# EAGLE library part LM239N (library open-bldc)
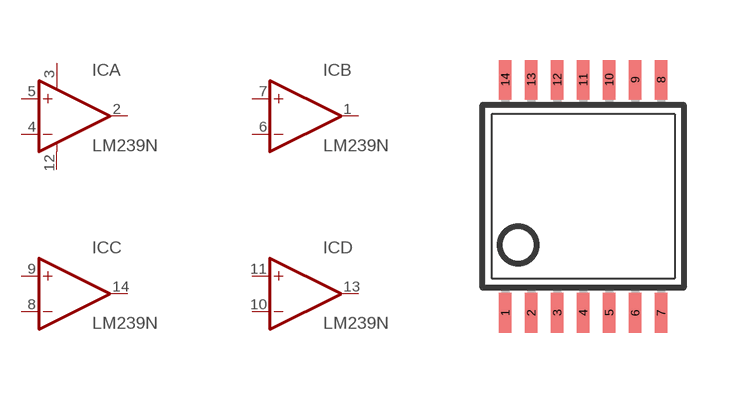
[diagram p22: symbol with the pads of TSSOP_14; footprint TSSOP_14]

Designator prefix IC; gates A=OP-AMP+- B=OP-AMP C=OP-AMP D=OP-AMP

## LM239N-TP  [TSSOP_14]
1  B:OUT  out
2  A:OUT  out
3  A:V+  pwr
4  A:-IN  in
5  A:+IN  in
6  B:-IN  in
7  B:+IN  in
8  C:-IN  in
9  C:+IN  in
10  D:-IN  in
11  D:+IN  in
12  A:V-  pwr
13  D:OUT  out
14  C:OUT  out

## Footprint TSSOP_14 (pad centres in mm)
smd 0.305 x 0.991: 1 -1.95,-2.918; 2 -1.3,-2.918; 3 -0.65,-2.918; 4 0,-2.918; 5 0.65,-2.918; 6 1.3,-2.918; 7 1.95,-2.918; 8 1.95,2.918; 9 1.3,2.918; 10 0.65,2.918; 11 0,2.918; 12 -0.65,2.918; 13 -1.3,2.918; 14 -1.95,2.918